# Altium schematic symbol library 100068622_data_switches.SchLib: 6 symbols
Pins are listed as number, name and electrical type; pins without a type are passive.

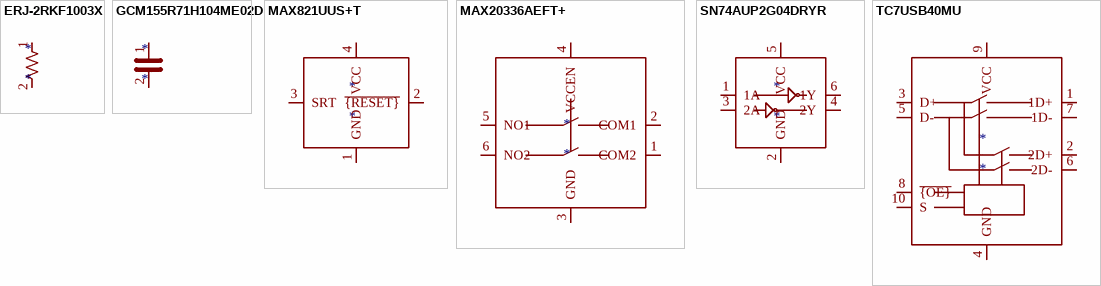
[diagram p0: symbols ERJ-2RKF1003X to TC7USB40MU]

## ERJ-2RKF1003X
designator *
pins: 1, 2

## GCM155R71H104ME02D
designator *
pins: 1, 2

## MAX821UUS+T
designator *
pins: 1 GND, 2 ~{{RESET}}, 3 SRT, 4 VCC

## MAX20336AEFT+
designator *
pins: 1 COM2, 2 COM1, 3 GND, 4 VCCEN, 5 NO1, 6 NO2

## SN74AUP2G04DRYR
designator *
pins: 1 1A, 2 GND, 3 2A, 4 2Y, 5 VCC, 6 1Y

## TC7USB40MU
designator *
pins: 1 1D+, 2 2D+, 3 D+, 4 GND, 5 D-, 6 2D-, 7 1D-, 8 ~{{OE}}, 9 VCC, 10 S